# Altium schematic symbol library LM358_New (1).SchLib: 1 symbol
Pins are listed as number, name and electrical type; pins without a type are passive.

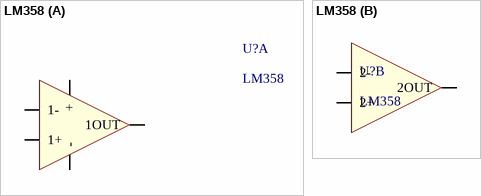
[diagram p0: symbol LM358]

## LM358
designator U?
LM358 Op Amp
footprint SOIC127P600-8BM (SOIC, 8-Leads, Body 4.9x3.9mm, Pitch 1.27mm, IPC Low Density)
part A pins: 1 1OUT, 2 1-, 3 1+, 4 -, 8 +
part B pins: 5 2+, 6 2-, 7 2OUT